# EAGLE library part MCP42XXX (library micro-pic18xxx)
Dual digital potentiometer with SPI interface
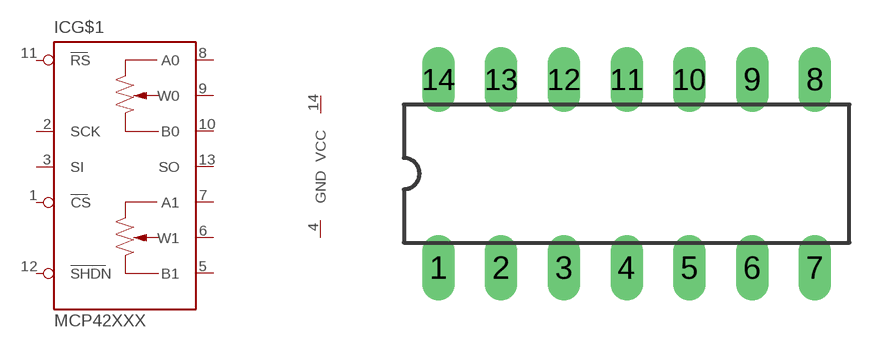
[diagram p3: symbol with the pads of DIL14; footprint DIL14]

Designator prefix IC; gates G$1=MCP42XX VCC=VDD GND=VSS

## MCP42XXXP  [DIL14]
1  G$1:CS  in
2  G$1:SCK  in
3  G$1:SI  in
4  GND:GND  pwr
5  G$1:B1  pas
6  G$1:W1  pas
7  G$1:A1  pas
8  G$1:A0  pas
9  G$1:W0  pas
10  G$1:B0  pas
11  G$1:RS  in
12  G$1:SHDN  in
13  G$1:SO  out
14  VCC:VCC  pwr

## Footprint DIL14 (pad centres in mm)
Dual In Line
drill 0.813 long: 1 -7.62,-3.81; 2 -5.08,-3.81; 3 -2.54,-3.81; 4 0,-3.81; 5 2.54,-3.81; 6 5.08,-3.81; 7 7.62,-3.81; 8 7.62,3.81; 9 5.08,3.81; 10 2.54,3.81; 11 0,3.81; 12 -2.54,3.81; 13 -5.08,3.81; 14 -7.62,3.81